# Altium footprint library LED_0603.PcbLib: 1 footprints
Each footprint in its own frame and in the unit in brackets; x right, y up, seen from the top. Pads: shape width x height; smd on the part's side, far side on the other; paste and mask are expansions set on the pad; w line width, h text height; cw(c..) or ccw(c..) is an arc to the next point about the centre after c.
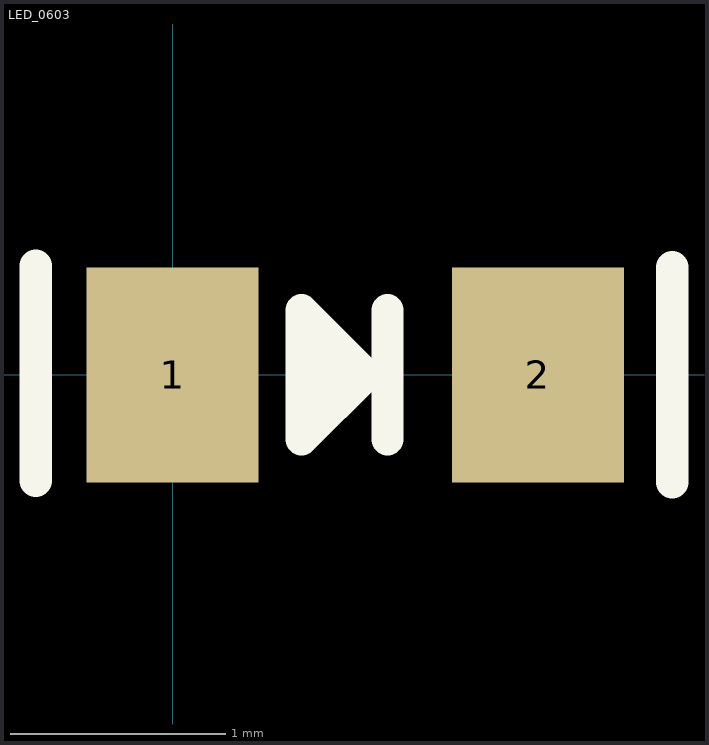
[diagram p0: the footprint, top view; thin cyan lines are the x and y axes]

## LED_0603 [mm]
pads (2):
  rect 0.8x1 smd: 1(0,0) 2(1.7,0)
Top Overlay:
  lines w0.15: -0.636,-0.492 -0.636,0.508 ; 0.6,0 1,0 ; 0.7,-0.15 0.7,0.15 ; 1,-0.3 1,0 ; 1,0.3 1,0 ; 2.325,-0.5 2.325,0.5 ; 0.6,-0.3 0.9,0 ; 0.6,-0.3 0.6,0.3 ; 0.6,-0.3 0.6,0.3 ; 0.6,0.3 0.9,0 ; 0.9,0 1,0
3D body "LED_0603.STEP": height 0.68, standoff 0, extent 0.042,-0.368 1.692,0.357